# Altium schematic symbol library Infrared LEDs.SchLib: 2 symbols
Pins are listed as number, name and electrical type; pins without a type are passive.

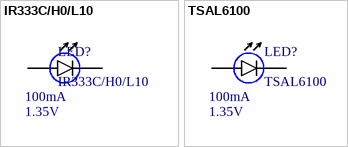
[diagram p0: symbols IR333C/H0/L10 to TSAL6100]

## IR333C/H0/L10
designator LED?  Max current: 100mA  Forward voltage drop: 1.35V
IR333C/H0/L10 940nm IR LED Through Hole; Max radiant intensity: 45mW/sr; Supplier 1: Digi-Key; Supplier Part Number 1: 1080-1082-ND
footprint LED TH 5mm (Through hole 5mm LED)
pins: A, K

## TSAL6100
designator LED?  Max current: 100mA  Forward voltage drop: 1.35V
TSAL6100 940nm IR LED Through Hole; Max radiant intensity: 170mW/sr; Supplier 1: Digi-Key; Supplier Part Number 1: 751-1203-ND
footprint LED TH 5mm (Through hole 5mm LED)
pins: A, K